# Altium footprint library PLS2-2.PcbLib: 1 footprints
Each footprint in its own frame and in the unit in brackets; x right, y up, seen from the top. Pads: shape width x height; smd on the part's side, far side on the other; paste and mask are expansions set on the pad; w line width, h text height; cw(c..) or ccw(c..) is an arc to the next point about the centre after c.
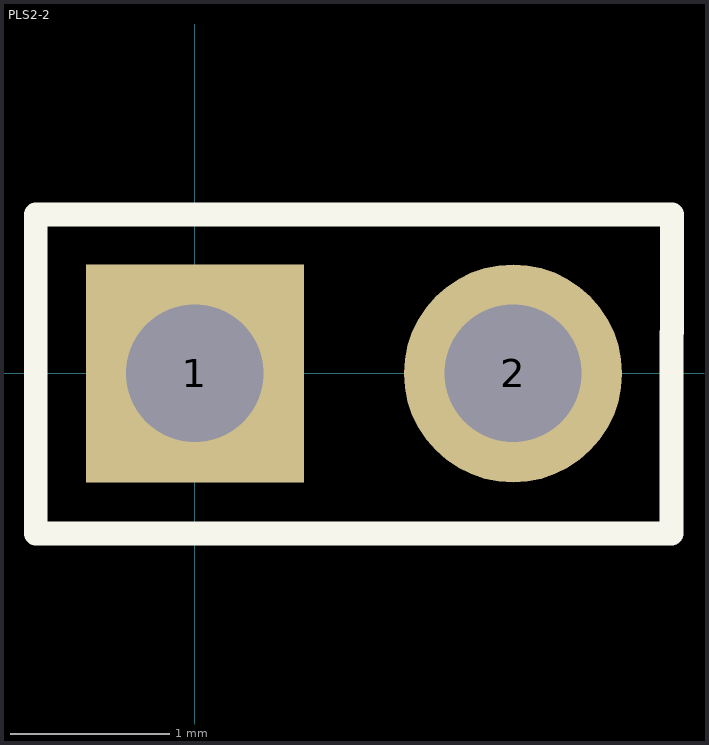
[diagram p0: the footprint, top view; thin cyan lines are the x and y axes]

## PLS2-2 [mil]
pads (2):
  rect 54x54 hole 34: 1(0,0)
  round 54 hole 34: 2(78.74,0)
Top Overlay:
  lines w5.91: -39.37,-39.65 117.96,-39.65 117.96,10.02 118.13,10.2 118.11,10.22 118.11,39.37 -39.37,39.37 -39.37,-39.65 ; -39.37,-39.65 -39.37,-39.65
3D body "User Library-PLD2-2.step": height 216.54, standoff -98.43, extent -51.26,-39.65 129.84,39.08